# Altium footprint library SIP10_MM.PcbLib: 1 footprints
Each footprint in its own frame and in the unit in brackets; x right, y up, seen from the top. Pads: shape width x height; smd on the part's side, far side on the other; paste and mask are expansions set on the pad; w line width, h text height; cw(c..) or ccw(c..) is an arc to the next point about the centre after c.
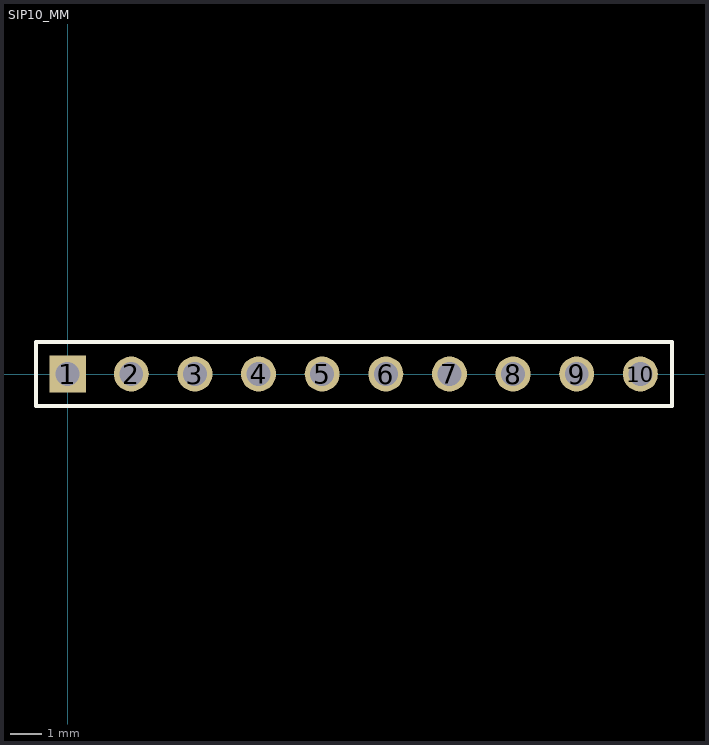
[diagram p0: the footprint, top view; thin cyan lines are the x and y axes]

## SIP10_MM [mm]
pads (10):
  rect 1.15x1.15 hole 0.75: 1(0,0)
  round 1.1 hole 0.75: 2(2,0) 3(4,0) 4(6,0) 5(8,0) 6(10,0) 7(12,0) 8(14,0) 9(16,0) 10(18,0)
Top Overlay:
  lines w0.127: -1,-1 -1,1 19,1 19,-1 -1,-1
3D body: height 6, standoff -2.8, extent 8.995,-0.991 14.945,1.009
3D body: height 6, standoff -2.8, extent 14.947,-0.989 18.897,1.011
3D body: height 6, standoff -2.8, extent -0.929,-0.991 5.021,1.009
3D body: height 6, standoff -2.8, extent 5.023,-0.989 8.973,1.011